# Altium schematic symbol library PWR JACK 2.5.SchLib: 1 symbol
Pins are listed as number, name and electrical type; pins without a type are passive.

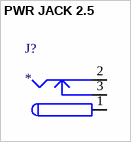
[diagram p0: symbol PWR JACK 2.5]

## PWR JACK 2.5
designator J?
pins: 1 (power), 2 (power), 3 (power)